# EAGLE library part MCP3464-E_ST (library MCP3464-E_ST)
Analog to Digital Converters - ADC Source: Datasheet <https://datasheet.datasheetarchive.com/originals/distributors/Datasheets_SAMA/a32d2ac5ea678adff168c57dcbce46ff.pdf>
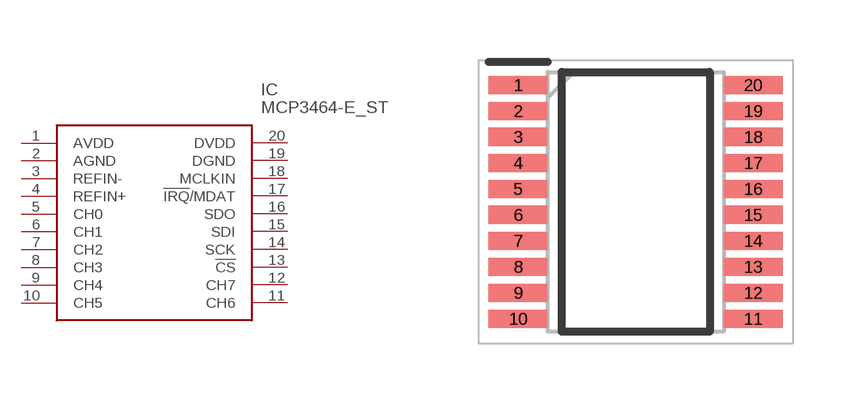
[diagram p0: symbol with the pads of SOP65P640X120-20N; footprint SOP65P640X120-20N]

Designator prefix IC

## MCP3464-E_ST (Arrow_Part_Number: MCP3464-E/ST; Arrow_Price-Stock: https://www.arrow.com/en/products/mcp3464-est/microchip-technology?region=nac; Description: Analog to Digital Converters - ADC; Height: 1.2mm; Manufacturer_Name: Microchip; Manufacturer_Part_Number: MCP3464-E/ST; Mouser_Part_Number: 579-MCP3464-E/ST; Mouser_Price-Stock: https://www.mouser.co.uk/ProductDetail/Microchip-Technology/MCP3464-E-ST?qs=xZ%2FP%252Ba9zWqaupsFaXBxOow%3D%3D)  [SOP65P640X120-20N]
1  AVDD
2  AGND
3  REFIN-
4  REFIN+
5  CH0
6  CH1
7  CH2
8  CH3
9  CH4
10  CH5
11  CH6
12  CH7
13  !CS
14  SCK
15  SDI
16  SDO
17  !IRQ!/MDAT
18  MCLKIN
19  DGND
20  DVDD

## Footprint SOP65P640X120-20N (pad centres in mm)
20-LEAD PLASTIC THIN SHRINK SMALL OUTLINE(ST)
smd 1.475 x 0.45: 1 -2.938,2.925; 2 -2.938,2.275; 3 -2.938,1.625; 4 -2.938,0.975; 5 -2.938,0.325; 6 -2.938,-0.325; 7 -2.938,-0.975; 8 -2.938,-1.625; 9 -2.938,-2.275; 10 -2.938,-2.925; 11 2.938,-2.925; 12 2.938,-2.275; 13 2.938,-1.625; 14 2.938,-0.975; 15 2.938,-0.325; 16 2.938,0.325; 17 2.938,0.975; 18 2.938,1.625; 19 2.938,2.275; 20 2.938,2.925